# EAGLE library part STM32F7*IIK6 (library mTrain)
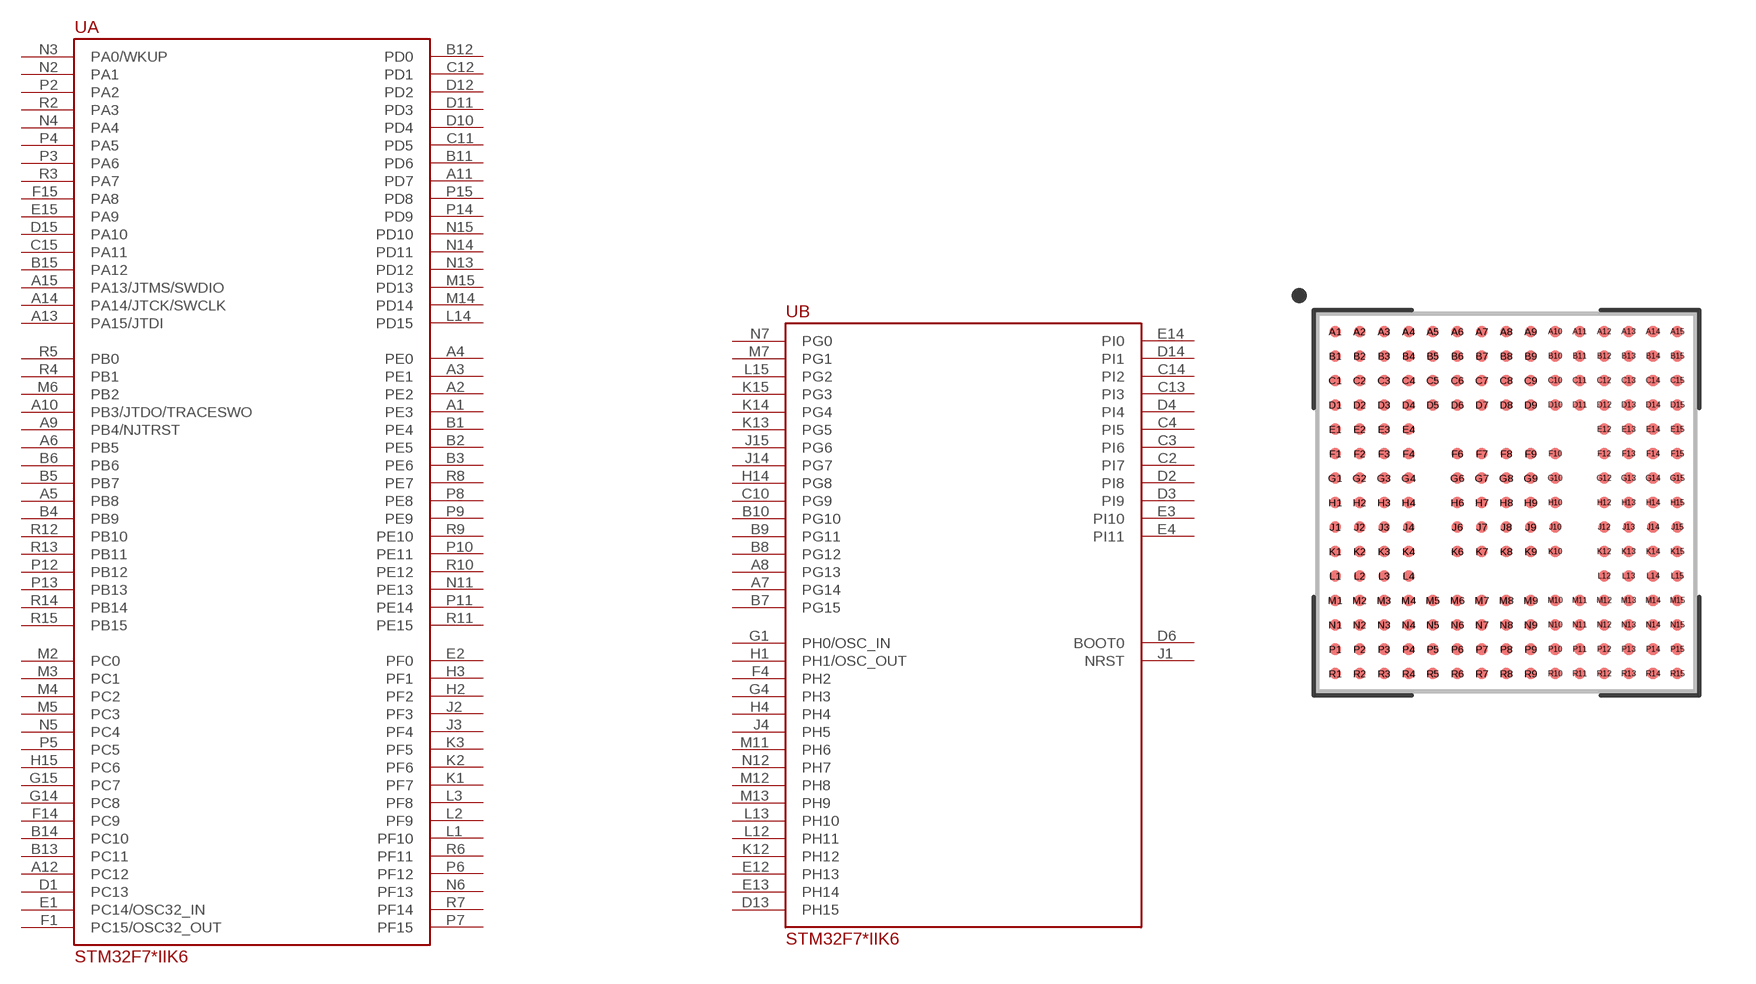
[diagram p2: symbol with the pads of UFBGA176+25; footprint UFBGA176+25]

Designator prefix U; gates A=STM32F7*IIK6_1 B=STM32F7*IIK6_2

## STM32F7IIK6  [UFBGA176+25]
A1  A:PE3
A2  A:PE2
A3  A:PE1
A4  A:PE0
A5  A:PB8
A6  A:PB5
A7  B:PG14
A8  B:PG13
A9  A:PB4/NJTRST
A10  A:PB3/JTDO/TRACESWO
A11  A:PD7
A12  A:PC12
A13  A:PA15/JTDI
A14  A:PA14/JTCK/SWCLK
A15  A:PA13/JTMS/SWDIO
B1  A:PE4
B2  A:PE5
B3  A:PE6
B4  A:PB9
B5  A:PB7
B6  A:PB6
B7  B:PG15
B8  B:PG12
B9  B:PG11
B10  B:PG10
B11  A:PD6
B12  A:PD0
B13  A:PC11
B14  A:PC10
B15  A:PA12
C2  B:PI7
C3  B:PI6
C4  B:PI5
C10  B:PG9
C11  A:PD5
C12  A:PD1
C13  B:PI3
C14  B:PI2
C15  A:PA11
D1  A:PC13
D2  B:PI8
D3  B:PI9
D4  B:PI4
D6  B:BOOT0
D10  A:PD4
D11  A:PD3
D12  A:PD2
D13  B:PH15
D14  B:PI1
D15  A:PA10
E1  A:PC14/OSC32_IN
E2  A:PF0
E3  B:PI10
E4  B:PI11
E12  B:PH13
E13  B:PH14
E14  B:PI0
E15  A:PA9
F1  A:PC15/OSC32_OUT
F4  B:PH2
F14  A:PC9
F15  A:PA8
G1  B:PH0/OSC_IN
G4  B:PH3
G14  A:PC8
G15  A:PC7
H1  B:PH1/OSC_OUT
H2  A:PF2
H3  A:PF1
H4  B:PH4
H14  B:PG8
H15  A:PC6
J1  B:NRST
J2  A:PF3
J3  A:PF4
J4  B:PH5
J14  B:PG7
J15  B:PG6
K1  A:PF7
K2  A:PF6
K3  A:PF5
K12  B:PH12
K13  B:PG5
K14  B:PG4
K15  B:PG3
L1  A:PF10
L2  A:PF9
L3  A:PF8
L12  B:PH11
L13  B:PH10
L14  A:PD15
L15  B:PG2
M2  A:PC0
M3  A:PC1
M4  A:PC2
M5  A:PC3
M6  A:PB2
M7  B:PG1
M11  B:PH6
M12  B:PH8
M13  B:PH9
M14  A:PD14
M15  A:PD13
N2  A:PA1
N3  A:PA0/WKUP
N4  A:PA4
N5  A:PC4
N6  A:PF13
N7  B:PG0
N11  A:PE13
N12  B:PH7
N13  A:PD12
N14  A:PD11
N15  A:PD10
P2  A:PA2
P3  A:PA6
P4  A:PA5
P5  A:PC5
P6  A:PF12
P7  A:PF15
P8  A:PE8
P9  A:PE9
P10  A:PE11
P11  A:PE14
P12  A:PB12
P13  A:PB13
P14  A:PD9
P15  A:PD8
R2  A:PA3
R3  A:PA7
R4  A:PB1
R5  A:PB0
R6  A:PF11
R7  A:PF14
R8  A:PE7
R9  A:PE10
R10  A:PE12
R11  A:PE15
R12  A:PB10
R13  A:PB11
R14  A:PB14
R15  A:PB15

## Footprint UFBGA176+25 (pad centres in mm)
225-BGA, collapsing, 0.65 mm pitch, 10 X 10 X 0.6 mm body 225-pin collapsing BGA package with 0.65 mm col pitch and 0.65 mm row pitch with body size 10 X 10 X 0.6 mm
smd 0.3 x 0.3: A1 -4.55,4.55; A2 -3.9,4.55; A3 -3.25,4.55; A4 -2.6,4.55; A5 -1.95,4.55; A6 -1.3,4.55; A7 -0.65,4.55; A8 0,4.55; A9 0.65,4.55; A10 1.3,4.55; A11 1.95,4.55; A12 2.6,4.55; A13 3.25,4.55; A14 3.9,4.55; A15 4.55,4.55; B1 -4.55,3.9; B2 -3.9,3.9; B3 -3.25,3.9; B4 -2.6,3.9; B5 -1.95,3.9; B6 -1.3,3.9; B7 -0.65,3.9; B8 0,3.9; B9 0.65,3.9; B10 1.3,3.9; B11 1.95,3.9; B12 2.6,3.9; B13 3.25,3.9; B14 3.9,3.9; B15 4.55,3.9; C1 -4.55,3.25; C2 -3.9,3.25; C3 -3.25,3.25; C4 -2.6,3.25; C5 -1.95,3.25; C6 -1.3,3.25; C7 -0.65,3.25; C8 0,3.25; C9 0.65,3.25; C10 1.3,3.25; C11 1.95,3.25; C12 2.6,3.25; C13 3.25,3.25; C14 3.9,3.25; C15 4.55,3.25; D1 -4.55,2.6; D2 -3.9,2.6; D3 -3.25,2.6; D4 -2.6,2.6; D5 -1.95,2.6; D6 -1.3,2.6; D7 -0.65,2.6; D8 0,2.6; D9 0.65,2.6; D10 1.3,2.6; D11 1.95,2.6; D12 2.6,2.6; D13 3.25,2.6; D14 3.9,2.6; D15 4.55,2.6; E1 -4.55,1.95; E2 -3.9,1.95; E3 -3.25,1.95; E4 -2.6,1.95; E12 2.6,1.95; E13 3.25,1.95; E14 3.9,1.95; E15 4.55,1.95; F1 -4.55,1.3; F2 -3.9,1.3; F3 -3.25,1.3; F4 -2.6,1.3; F6 -1.3,1.3; F7 -0.65,1.3; F8 0,1.3; F9 0.65,1.3; F10 1.3,1.3; F12 2.6,1.3; F13 3.25,1.3; F14 3.9,1.3; F15 4.55,1.3; G1 -4.55,0.65; G2 -3.9,0.65; G3 -3.25,0.65; G4 -2.6,0.65; G6 -1.3,0.65; G7 -0.65,0.65; G8 0,0.65; G9 0.65,0.65; G10 1.3,0.65; G12 2.6,0.65; G13 3.25,0.65; G14 3.9,0.65; G15 4.55,0.65; H1 -4.55,0; H2 -3.9,0; H3 -3.25,0; H4 -2.6,0; H6 -1.3,0; H7 -0.65,0; H8 0,0; H9 0.65,0; H10 1.3,0; H12 2.6,0; H13 3.25,0; H14 3.9,0; H15 4.55,0; J1 -4.55,-0.65; J2 -3.9,-0.65; J3 -3.25,-0.65; J4 -2.6,-0.65; J6 -1.3,-0.65; J7 -0.65,-0.65; J8 0,-0.65; J9 0.65,-0.65; J10 1.3,-0.65; J12 2.6,-0.65; J13 3.25,-0.65; J14 3.9,-0.65; J15 4.55,-0.65; K1 -4.55,-1.3; K2 -3.9,-1.3; K3 -3.25,-1.3; K4 -2.6,-1.3; K6 -1.3,-1.3; K7 -0.65,-1.3; K8 0,-1.3; K9 0.65,-1.3; K10 1.3,-1.3; K12 2.6,-1.3; K13 3.25,-1.3; K14 3.9,-1.3; K15 4.55,-1.3; L1 -4.55,-1.95; L2 -3.9,-1.95; L3 -3.25,-1.95; L4 -2.6,-1.95; L12 2.6,-1.95; L13 3.25,-1.95; L14 3.9,-1.95; L15 4.55,-1.95; M1 -4.55,-2.6; M2 -3.9,-2.6; M3 -3.25,-2.6; M4 -2.6,-2.6; M5 -1.95,-2.6; M6 -1.3,-2.6; M7 -0.65,-2.6; M8 0,-2.6; M9 0.65,-2.6; M10 1.3,-2.6; M11 1.95,-2.6; M12 2.6,-2.6; M13 3.25,-2.6; M14 3.9,-2.6; M15 4.55,-2.6; N1 -4.55,-3.25; N2 -3.9,-3.25; N3 -3.25,-3.25; N4 -2.6,-3.25; N5 -1.95,-3.25; N6 -1.3,-3.25; N7 -0.65,-3.25; N8 0,-3.25; N9 0.65,-3.25; N10 1.3,-3.25; N11 1.95,-3.25; N12 2.6,-3.25; N13 3.25,-3.25; N14 3.9,-3.25; N15 4.55,-3.25; P1 -4.55,-3.9; P2 -3.9,-3.9; P3 -3.25,-3.9; P4 -2.6,-3.9; P5 -1.95,-3.9; P6 -1.3,-3.9; P7 -0.65,-3.9; P8 0,-3.9; P9 0.65,-3.9; P10 1.3,-3.9; P11 1.95,-3.9; P12 2.6,-3.9; P13 3.25,-3.9; P14 3.9,-3.9; P15 4.55,-3.9; R1 -4.55,-4.55; R2 -3.9,-4.55; R3 -3.25,-4.55; R4 -2.6,-4.55; R5 -1.95,-4.55; R6 -1.3,-4.55; R7 -0.65,-4.55; R8 0,-4.55; R9 0.65,-4.55; R10 1.3,-4.55; R11 1.95,-4.55; R12 2.6,-4.55; R13 3.25,-4.55; R14 3.9,-4.55; R15 4.55,-4.55